# Altium schematic symbol library CustomMiscellaneous.SchLib: 4 symbols
Pins are listed as number, name and electrical type; pins without a type are passive.

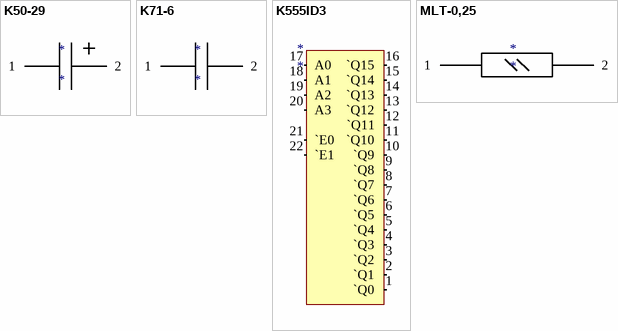
[diagram p0: symbols K50-29 to MLT-0,25]

## K50-29
designator *
footprint K50-29
pins: 1, 2

## K71-6
designator *
footprint K71-6
pins: 1, 2

## K555ID3
designator *
footprint K555ID3
pins: 1 `Q0 (in), 2 `Q1 (in), 3 `Q2 (in), 4 `Q3 (in), 5 `Q4 (in), 6 `Q5 (in), 7 `Q6 (in), 8 `Q7 (in), 9 `Q8 (in), 10 `Q9 (in), 11 `Q10 (in), 12 `Q11 (in), 13 `Q12 (in), 14 `Q13 (in), 15 `Q14 (in), 16 `Q15 (in), 17 A0 (in), 18 A1 (in), 19 A2 (in), 20 A3 (in), 21 `E0 (in), 22 `E1 (in)

## MLT-0,25
designator *
footprint MLT-0,25
pins: 1, 2